# EAGLE library part VL53* (library bschulz)
VL53xxxx - Time of Flight Sensor Characteristics: VCC: 2.6~3.6V Operating Temperature: -40°C to 85°C Range: 0 ~ 6m* *Depends on model Digikey: VL53L4CXV0DH/1 <https://www.digikey.com/en/products/detail/stmicroelectronics/VL53L4CXV0DH-1/16123777?s=N4IgTCBcDaIGoBkCsBmBAWAwgDRAXQF8g>
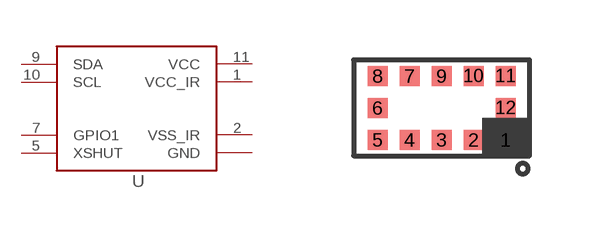
[diagram p177: symbol with the pads of VL53XXXX; footprint VL53XXXX]

Designator prefix U

## VL53 (DISP: VL53xxxx; MF: ST), VL53L4CX (DIGIKEY: 497-VL53L4CXV0DH/1CT-ND; DISP: VL53L4CX; MF: ST; MPN: VL53L4CXV0DH/1)  [VL53XXXX]
1  VCC_IR  pwr
2  VSS_IR  pwr
3  GND  pwr
4  GND  pwr
5  XSHUT  in
6  GND  pwr
7  GPIO1
9  SDA
10  SCL  in
11  VCC  pwr
12  GND  pwr

## Footprint VL53XXXX (pad centres in mm)
VL53L4CX ToF sensor package Datasheet <https://www.st.com/resource/en/datasheet/vl53l4cx.pdf>
smd 0.5 x 0.5: 1 1.6,-0.8; 2 0.8,-0.8; 3 0,-0.8; 4 -0.8,-0.8; 5 -1.6,-0.8; 6 -1.6,0; 7 -0.8,0.8; 8 -1.6,0.8; 9 0,0.8; 10 0.8,0.8; 11 1.6,0.8; 12 1.6,0